# EAGLE library part DM385 (library texas1)
DM385_AAR edit this description Auto generated by make-symbol-device-package-bsdl.ulp Rev. 43 Source: DM385_AAR.bsdl
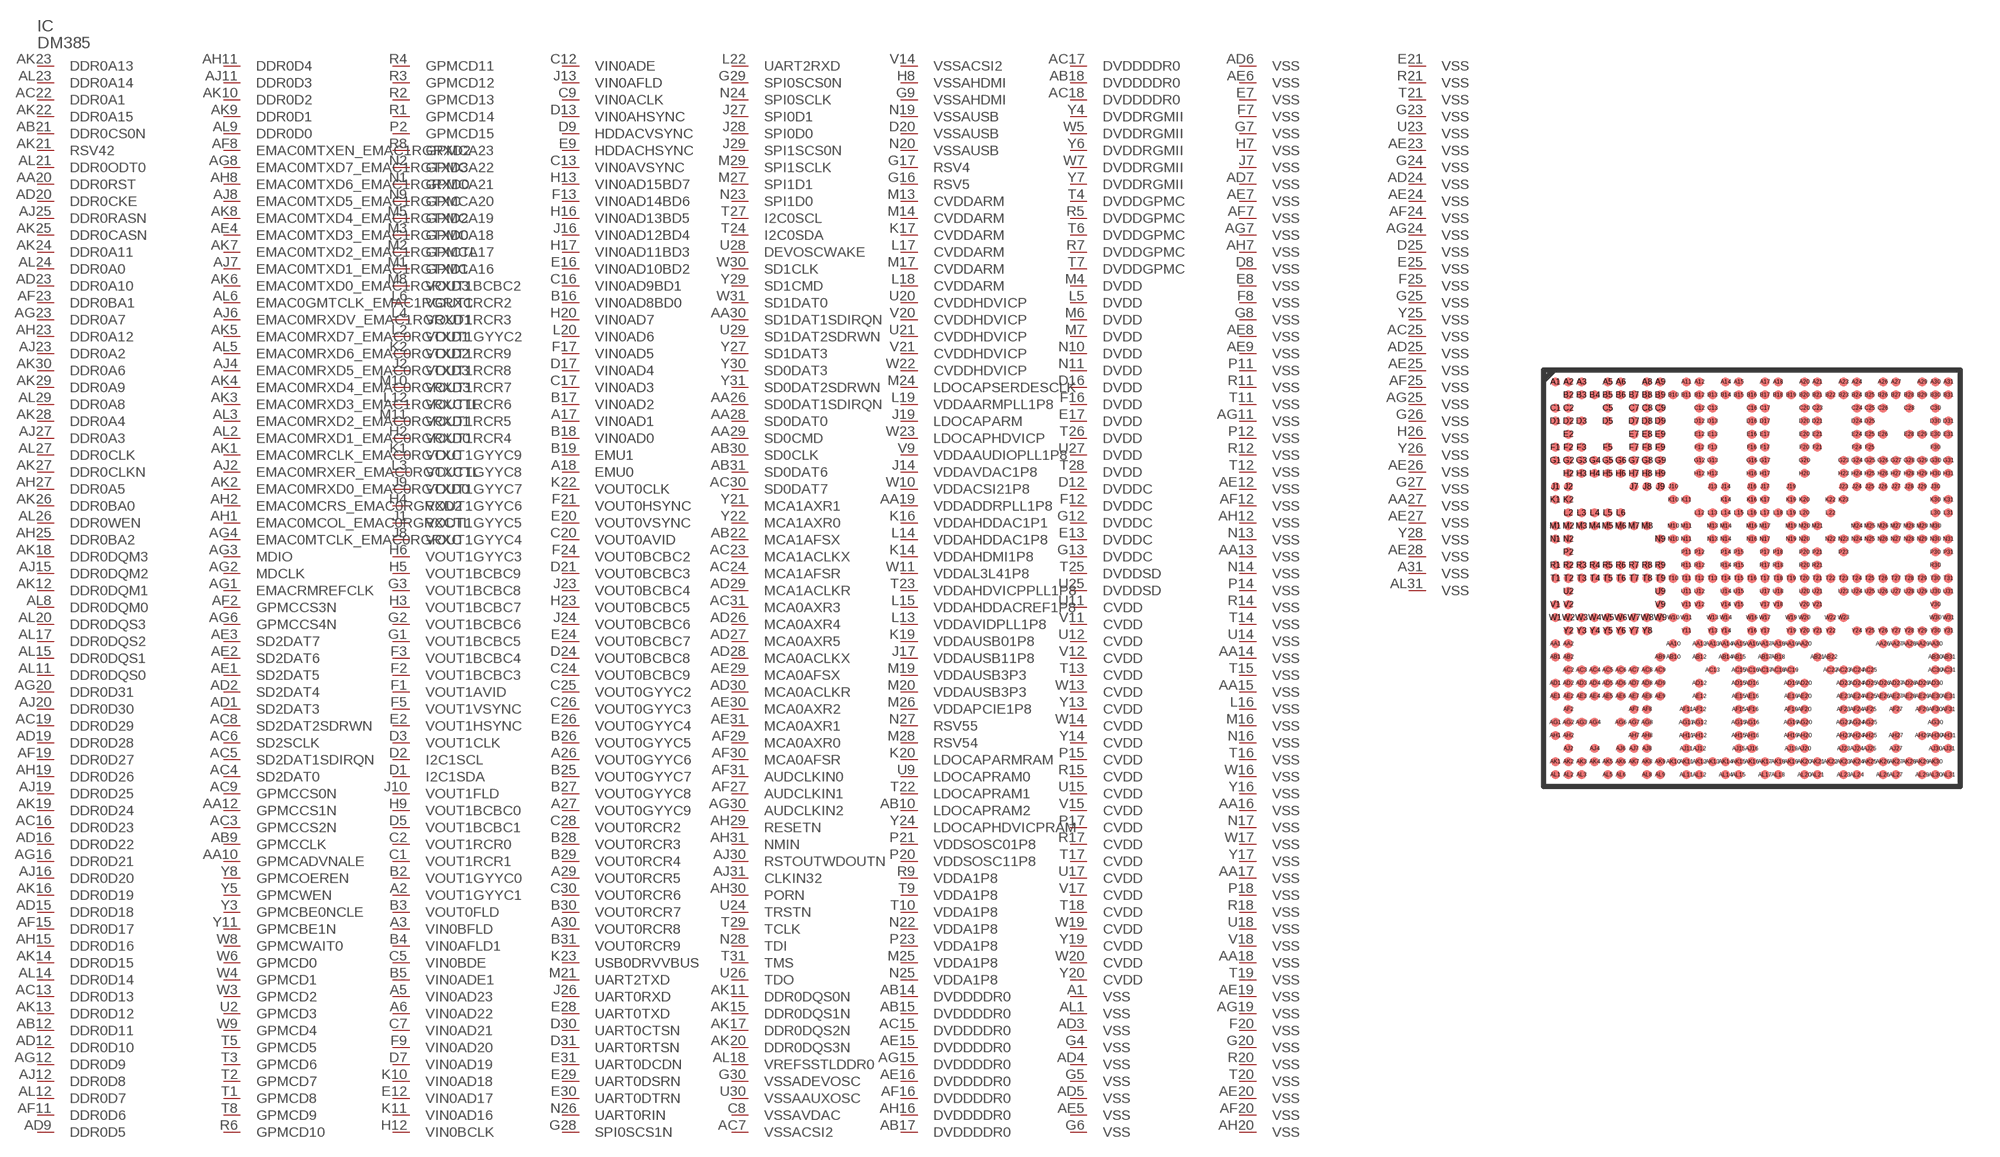
[diagram p121: symbol with the pads of AAR; footprint AAR]

Designator prefix IC

## DM385  [AAR]
A1  VSS  pwr
A2  VOUT1GYYC1
A3  VIN0BFLD
A5  VIN0AD23
A6  VIN0AD22
A17  VIN0AD1
A18  EMU0
A26  VOUT0GYYC6
A27  VOUT0GYYC9
A29  VOUT0RCR5
A30  VOUT0RCR8
A31  VSS  pwr
AA10  GPMCADVNALE
AA12  GPMCCS1N
AA13  VSS  pwr
AA14  VSS  pwr
AA15  VSS  pwr
AA16  VSS  pwr
AA17  VSS  pwr
AA18  VSS  pwr
AA19  VDDADDRPLL1P8  pwr
AA20  DDR0RST
AA26  SD0DAT1SDIRQN
AA27  VSS  pwr
AA28  SD0DAT0
AA29  SD0CMD
AA30  SD1DAT1SDIRQN
AB9  GPMCCLK
AB10  LDOCAPRAM2  pas
AB12  DDR0D11
AB14  DVDDDDR0  pwr
AB15  DVDDDDR0  pwr
AB17  DVDDDDR0  pwr
AB18  DVDDDDR0  pwr
AB21  DDR0CS0N
AB22  MCA1AFSX
AB30  SD0CLK
AB31  SD0DAT6
AC3  GPMCCS2N
AC4  SD2DAT0
AC5  SD2DAT1SDIRQN
AC6  SD2SCLK
AC7  VSSACSI2  pwr
AC8  SD2DAT2SDRWN
AC9  GPMCCS0N
AC13  DDR0D13
AC15  DVDDDDR0  pwr
AC16  DDR0D23
AC17  DVDDDDR0  pwr
AC18  DVDDDDR0  pwr
AC19  DDR0D29
AC22  DDR0A1
AC23  MCA1ACLKX
AC24  MCA1AFSR
AC25  VSS  pwr
AC30  SD0DAT7
AC31  MCA0AXR3
AD1  SD2DAT3
AD2  SD2DAT4
AD3  VSS  pwr
AD4  VSS  pwr
AD5  VSS  pwr
AD6  VSS  pwr
AD7  VSS  pwr
AD9  DDR0D5
AD12  DDR0D10
AD15  DDR0D18
AD16  DDR0D22
AD19  DDR0D28
AD20  DDR0CKE
AD23  DDR0A10
AD24  VSS  pwr
AD25  VSS  pwr
AD26  MCA0AXR4
AD27  MCA0AXR5
AD28  MCA0ACLKX
AD29  MCA1ACLKR
AD30  MCA0ACLKR
AE1  SD2DAT5
AE2  SD2DAT6
AE3  SD2DAT7
AE4  EMAC0MTXD3_EMAC1RGTXD0
AE5  VSS  pwr
AE6  VSS  pwr
AE7  VSS  pwr
AE8  VSS  pwr
AE9  VSS  pwr
AE12  VSS  pwr
AE15  DVDDDDR0  pwr
AE16  DVDDDDR0  pwr
AE19  VSS  pwr
AE20  VSS  pwr
AE23  VSS  pwr
AE24  VSS  pwr
AE25  VSS  pwr
AE26  VSS  pwr
AE27  VSS  pwr
AE28  VSS  pwr
AE29  MCA0AFSX
AE30  MCA0AXR2
AE31  MCA0AXR1
AF2  GPMCCS3N
AF7  VSS  pwr
AF8  EMAC0MTXEN_EMAC1RGRXD2
AF11  DDR0D6
AF12  VSS  pwr
AF15  DDR0D17
AF16  DVDDDDR0  pwr
AF19  DDR0D27
AF20  VSS  pwr
AF23  DDR0BA1
AF24  VSS  pwr
AF25  VSS  pwr
AF27  AUDCLKIN1
AF29  MCA0AXR0
AF30  MCA0AFSR
AF31  AUDCLKIN0
AG1  EMACRMREFCLK
AG2  MDCLK
AG3  MDIO
AG4  EMAC0MTCLK_EMAC0RGRXC
AG6  GPMCCS4N
AG7  VSS  pwr
AG8  EMAC0MTXD7_EMAC1RGTXD3
AG11  VSS  pwr
AG12  DDR0D9
AG15  DVDDDDR0  pwr
AG16  DDR0D21
AG19  VSS  pwr
AG20  DDR0D31
AG23  DDR0A7
AG24  VSS  pwr
AG25  VSS  pwr
AG30  AUDCLKIN2
AH1  EMAC0MCOL_EMAC0RGRXCTL
AH2  EMAC0MCRS_EMAC0RGRXD2
AH7  VSS  pwr
AH8  EMAC0MTXD6_EMAC1RGRXD0
AH11  DDR0D4
AH12  VSS  pwr
AH15  DDR0D16
AH16  DVDDDDR0  pwr
AH19  DDR0D26
AH20  VSS  pwr
AH23  DDR0A12
AH25  DDR0BA2
AH27  DDR0A5
AH29  RESETN
AH30  PORN  in
AH31  NMIN
AJ2  EMAC0MRXER_EMAC0RGTXCTL
AJ4  EMAC0MRXD5_EMAC0RGTXD3
AJ6  EMAC0MRXDV_EMAC1RGRXD1
AJ7  EMAC0MTXD1_EMAC1RGTXD1
AJ8  EMAC0MTXD5_EMAC1RGTXC
AJ11  DDR0D3
AJ12  DDR0D8
AJ15  DDR0DQM2
AJ16  DDR0D20
AJ19  DDR0D25
AJ20  DDR0D30
AJ23  DDR0A2
AJ25  DDR0RASN
AJ27  DDR0A3
AJ30  RSTOUTWDOUTN
AJ31  CLKIN32
AK1  EMAC0MRCLK_EMAC0RGTXC
AK2  EMAC0MRXD0_EMAC0RGTXD0
AK3  EMAC0MRXD3_EMAC1RGRXCTL
AK4  EMAC0MRXD4_EMAC0RGRXD3
AK5  EMAC0MRXD7_EMAC0RGTXD1
AK6  EMAC0MTXD0_EMAC1RGRXD3
AK7  EMAC0MTXD2_EMAC1RGTXCTL
AK8  EMAC0MTXD4_EMAC1RGTXD2
AK9  DDR0D1
AK10  DDR0D2
AK11  DDR0DQS0N
AK12  DDR0DQM1
AK13  DDR0D12
AK14  DDR0D15
AK15  DDR0DQS1N
AK16  DDR0D19
AK17  DDR0DQS2N
AK18  DDR0DQM3
AK19  DDR0D24
AK20  DDR0DQS3N
AK21  RSV42
AK22  DDR0A15
AK23  DDR0A13
AK24  DDR0A11
AK25  DDR0CASN
AK26  DDR0BA0
AK27  DDR0CLKN
AK28  DDR0A4
AK29  DDR0A9
AK30  DDR0A6
AL1  VSS  pwr
AL2  EMAC0MRXD1_EMAC0RGRXD0
AL3  EMAC0MRXD2_EMAC0RGRXD1
AL5  EMAC0MRXD6_EMAC0RGTXD2
AL6  EMAC0GMTCLK_EMAC1RGRXC
AL8  DDR0DQM0
AL9  DDR0D0
AL11  DDR0DQS0
AL12  DDR0D7
AL14  DDR0D14
AL15  DDR0DQS1
AL17  DDR0DQS2
AL18  VREFSSTLDDR0  pas
AL20  DDR0DQS3
AL21  DDR0ODT0
AL23  DDR0A14
AL24  DDR0A0
AL26  DDR0WEN
AL27  DDR0CLK
AL29  DDR0A8
AL31  VSS  pwr
B2  VOUT1GYYC0
B3  VOUT0FLD
B4  VIN0AFLD1
B5  VIN0ADE1
B16  VIN0AD8BD0
B17  VIN0AD2
B18  VIN0AD0
B19  EMU1
B25  VOUT0GYYC7
B26  VOUT0GYYC5
B27  VOUT0GYYC8
B28  VOUT0RCR3
B29  VOUT0RCR4
B30  VOUT0RCR7
B31  VOUT0RCR9
C1  VOUT1RCR1
C2  VOUT1RCR0
C5  VIN0BDE
C7  VIN0AD21
C8  VSSAVDAC  pwr
C9  VIN0ACLK
C12  VIN0ADE
C13  VIN0AVSYNC
C16  VIN0AD9BD1
C17  VIN0AD3
C20  VOUT0AVID
C24  VOUT0BCBC9
C25  VOUT0GYYC2
C26  VOUT0GYYC3
C28  VOUT0RCR2
C30  VOUT0RCR6
D1  I2C1SDA
D2  I2C1SCL
D3  VOUT1CLK
D5  VOUT1BCBC1
D7  VIN0AD19
D8  VSS  pwr
D9  HDDACVSYNC
D12  DVDDC  pwr
D13  VIN0AHSYNC
D16  DVDD  pwr
D17  VIN0AD4
D20  VSSAUSB  pwr
D21  VOUT0BCBC3
D24  VOUT0BCBC8
D25  VSS  pwr
D30  UART0CTSN
D31  UART0RTSN
E2  VOUT1HSYNC
E7  VSS  pwr
E8  VSS  pwr
E9  HDDACHSYNC
E12  VIN0AD17
E13  DVDDC  pwr
E16  VIN0AD10BD2
E17  DVDD  pwr
E20  VOUT0VSYNC
E21  VSS  pwr
E24  VOUT0BCBC7
E25  VSS  pwr
E26  VOUT0GYYC4
E28  UART0TXD
E29  UART0DSRN
E30  UART0DTRN
E31  UART0DCDN
F1  VOUT1AVID
F2  VOUT1BCBC3
F3  VOUT1BCBC4
F5  VOUT1VSYNC
F7  VSS  pwr
F8  VSS  pwr
F9  VIN0AD20
F12  DVDDC  pwr
F13  VIN0AD14BD6
F16  DVDD  pwr
F17  VIN0AD5
F20  VSS  pwr
F21  VOUT0HSYNC
F24  VOUT0BCBC2
F25  VSS  pwr
G1  VOUT1BCBC5
G2  VOUT1BCBC6
G3  VOUT1BCBC8
G4  VSS  pwr
G5  VSS  pwr
G6  VSS  pwr
G7  VSS  pwr
G8  VSS  pwr
G9  VSSAHDMI  pwr
G12  DVDDC  pwr
G13  DVDDC  pwr
G16  RSV5  pas
G17  RSV4  pas
G20  VSS  pwr
G23  VSS  pwr
G24  VSS  pwr
G25  VSS  pwr
G26  VSS  pwr
G27  VSS  pwr
G28  SPI0SCS1N
G29  SPI0SCS0N
G30  VSSADEVOSC  pwr
H2  VOUT1RCR4
H3  VOUT1BCBC7
H4  VOUT1GYYC6
H5  VOUT1BCBC9
H6  VOUT1GYYC3
H7  VSS  pwr
H8  VSSAHDMI  pwr
H9  VOUT1BCBC0
H12  VIN0BCLK
H13  VIN0AD15BD7
H16  VIN0AD13BD5
H17  VIN0AD11BD3
H20  VIN0AD7
H23  VOUT0BCBC5
H26  VSS  pwr
J1  VOUT1GYYC5
J2  VOUT1RCR8
J7  VSS  pwr
J8  VOUT1GYYC4
J9  VOUT1GYYC7
J10  VOUT1FLD
J13  VIN0AFLD
J14  VDDAVDAC1P8  pwr
J16  VIN0AD12BD4
J17  VDDAUSB11P8  pwr
J19  LDOCAPARM  pas
J23  VOUT0BCBC4
J24  VOUT0BCBC6
J26  UART0RXD
J27  SPI0D1
J28  SPI0D0
J29  SPI1SCS0N
K1  VOUT1GYYC9
K2  VOUT1RCR9
K10  VIN0AD18
K11  VIN0AD16
K14  VDDAHDMI1P8  pwr
K16  VDDAHDDAC1P1  pwr
K17  CVDDARM  pwr
K19  VDDAUSB01P8  pwr
K20  LDOCAPARMRAM  pas
K22  VOUT0CLK
K23  USB0DRVVBUS
L2  VOUT1GYYC2
L3  VOUT1GYYC8
L4  VOUT1RCR3
L5  DVDD  pwr
L6  VOUT1RCR2
L12  VOUT1RCR6
L13  VDDAVIDPLL1P8  pwr
L14  VDDAHDDAC1P8  pwr
L15  VDDAHDDACREF1P8  pwr
L16  VSS  pwr
L17  CVDDARM  pwr
L18  CVDDARM  pwr
L19  VDDAARMPLL1P8  pwr
L20  VIN0AD6
L22  UART2RXD
M1  GPMCA16
M2  GPMCA17
M3  GPMCA18
M4  DVDD  pwr
M5  GPMCA19
M6  DVDD  pwr
M7  DVDD  pwr
M8  VOUT1BCBC2
M10  VOUT1RCR7
M11  VOUT1RCR5
M13  CVDDARM  pwr
M14  CVDDARM  pwr
M16  VSS  pwr
M17  CVDDARM  pwr
M19  VDDAUSB3P3  pwr
M20  VDDAUSB3P3  pwr
M21  UART2TXD
M24  LDOCAPSERDESCLK  pas
M25  VDDA1P8  pwr
M26  VDDAPCIE1P8  pwr
M27  SPI1D1
M28  RSV54  pas
M29  SPI1SCLK
N1  GPMCA21
N2  GPMCA22
N9  GPMCA20
N10  DVDD  pwr
N11  DVDD  pwr
N13  VSS  pwr
N14  VSS  pwr
N16  VSS  pwr
N17  VSS  pwr
N19  VSSAUSB  pwr
N20  VSSAUSB  pwr
N22  VDDA1P8  pwr
N23  SPI1D0
N24  SPI0SCLK
N25  VDDA1P8  pwr
N26  UART0RIN
N27  RSV55  pas
N28  TDI  in
P2  GPMCD15
P11  VSS  pwr
P12  VSS  pwr
P14  VSS  pwr
P15  CVDD  pwr
P17  CVDD  pwr
P18  VSS  pwr
P20  VDDSOSC11P8  pwr
P21  VDDSOSC01P8  pwr
P23  VDDA1P8  pwr
R1  GPMCD14
R2  GPMCD13
R3  GPMCD12
R4  GPMCD11
R5  DVDDGPMC  pwr
R6  GPMCD10
R7  DVDDGPMC  pwr
R8  GPMCA23
R9  VDDA1P8  pwr
R11  VSS  pwr
R12  VSS  pwr
R14  VSS  pwr
R15  CVDD  pwr
R17  CVDD  pwr
R18  VSS  pwr
R20  VSS  pwr
R21  VSS  pwr
T1  GPMCD8
T2  GPMCD7
T3  GPMCD6
T4  DVDDGPMC  pwr
T5  GPMCD5
T6  DVDDGPMC  pwr
T7  DVDDGPMC  pwr
T8  GPMCD9
T9  VDDA1P8  pwr
T10  VDDA1P8  pwr
T11  VSS  pwr
T12  VSS  pwr
T13  CVDD  pwr
T14  VSS  pwr
T15  VSS  pwr
T16  VSS  pwr
T17  CVDD  pwr
T18  CVDD  pwr
T19  VSS  pwr
T20  VSS  pwr
T21  VSS  pwr
T22  LDOCAPRAM1  pas
T23  VDDAHDVICPPLL1P8  pwr
T24  I2C0SDA
T25  DVDDSD  pwr
T26  DVDD  pwr
T27  I2C0SCL
T28  DVDD  pwr
T29  TCLK  in
T31  TMS  in
U2  GPMCD3
U9  LDOCAPRAM0  pas
U11  CVDD  pwr
U12  CVDD  pwr
U14  VSS  pwr
U15  CVDD  pwr
U17  CVDD  pwr
U18  VSS  pwr
U20  CVDDHDVICP  pwr
U21  CVDDHDVICP  pwr
U23  VSS  pwr
U24  TRSTN  in
U25  DVDDSD  pwr
U26  TDO  out
U27  DVDD  pwr
U28  DEVOSCWAKE
U29  SD1DAT2SDRWN
U30  VSSAAUXOSC  pwr
V9  VDDAAUDIOPLL1P8  pwr
V11  CVDD  pwr
V12  CVDD  pwr
V14  VSSACSI2  pwr
V15  CVDD  pwr
V17  CVDD  pwr
V18  VSS  pwr
V20  CVDDHDVICP  pwr
V21  CVDDHDVICP  pwr
W3  GPMCD2
W4  GPMCD1
W5  DVDDRGMII  pwr
W6  GPMCD0
W7  DVDDRGMII  pwr
W8  GPMCWAIT0
W9  GPMCD4
W10  VDDACSI21P8  pwr
W11  VDDAL3L41P8  pwr
W13  CVDD  pwr
W14  CVDD  pwr
W16  VSS  pwr
W17  VSS  pwr
W19  CVDD  pwr
W20  CVDD  pwr
W22  CVDDHDVICP  pwr
W23  LDOCAPHDVICP  pas
W30  SD1CLK
W31  SD1DAT0
Y3  GPMCBE0NCLE
Y4  DVDDRGMII  pwr
Y5  GPMCWEN
Y6  DVDDRGMII  pwr
Y7  DVDDRGMII  pwr
Y8  GPMCOEREN
Y11  GPMCBE1N
Y13  CVDD  pwr
Y14  CVDD  pwr
Y16  VSS  pwr
Y17  VSS  pwr
Y19  CVDD  pwr
Y20  CVDD  pwr
Y21  MCA1AXR1
Y22  MCA1AXR0
Y24  LDOCAPHDVICPRAM  pas
Y25  VSS  pwr
Y26  VSS  pwr
Y27  SD1DAT3
Y28  VSS  pwr
Y29  SD1CMD
Y30  SD0DAT3
Y31  SD0DAT2SDRWN

## Footprint AAR (pad centres in mm)
DM385_AAR edit this description Auto generated by make-symbol-device-package-bsdl.ulp Rev. 43 Source: DM385_AAR.bsdl
smd 0.35 x 0.35: A1 -7.5,7.5; A2 -7,7.5; A3 -6.5,7.5; A5 -5.5,7.5; A6 -5,7.5; A8 -4,7.5; A9 -3.5,7.5; A11 -2.5,7.5; A12 -2,7.5; A14 -1,7.5; A15 -0.5,7.5; A17 0.5,7.5; A18 1,7.5; A20 2,7.5; A21 2.5,7.5; A23 3.5,7.5; A24 4,7.5; A26 5,7.5; A27 5.5,7.5; A29 6.5,7.5; A30 7,7.5; A31 7.5,7.5; AA1 -7.5,-2.5; AA2 -7,-2.5; AA10 -3,-2.5; AA12 -2,-2.5; AA13 -1.5,-2.5; AA14 -1,-2.5; AA15 -0.5,-2.5; AA16 0,-2.5; AA17 0.5,-2.5; AA18 1,-2.5; AA19 1.5,-2.5; AA20 2,-2.5; AA26 5,-2.5; AA27 5.5,-2.5; AA28 6,-2.5; AA29 6.5,-2.5; AA30 7,-2.5; AB1 -7.5,-3; AB2 -7,-3; AB9 -3.5,-3; AB10 -3,-3; AB12 -2,-3; AB14 -1,-3; AB15 -0.5,-3; AB17 0.5,-3; AB18 1,-3; AB21 2.5,-3; AB22 3,-3; AB30 7,-3; AB31 7.5,-3; AC2 -7,-3.5; AC3 -6.5,-3.5; AC4 -6,-3.5; AC5 -5.5,-3.5; AC6 -5,-3.5; AC7 -4.5,-3.5; AC8 -4,-3.5; AC9 -3.5,-3.5; AC13 -1.5,-3.5; AC15 -0.5,-3.5; AC16 0,-3.5; AC17 0.5,-3.5; AC18 1,-3.5; AC19 1.5,-3.5; AC22 3,-3.5; AC23 3.5,-3.5; AC24 4,-3.5; AC25 4.5,-3.5; AC30 7,-3.5; AC31 7.5,-3.5; AD1 -7.5,-4; AD2 -7,-4; AD3 -6.5,-4; AD4 -6,-4; AD5 -5.5,-4; AD6 -5,-4; AD7 -4.5,-4; AD8 -4,-4; AD9 -3.5,-4; AD12 -2,-4; AD15 -0.5,-4; AD16 0,-4; AD19 1.5,-4; AD20 2,-4; AD23 3.5,-4; AD24 4,-4; AD25 4.5,-4; AD26 5,-4; AD27 5.5,-4; AD28 6,-4; AD29 6.5,-4; AD30 7,-4; AE1 -7.5,-4.5; AE2 -7,-4.5; AE3 -6.5,-4.5; AE4 -6,-4.5; AE5 -5.5,-4.5; AE6 -5,-4.5; AE7 -4.5,-4.5; AE8 -4,-4.5; AE9 -3.5,-4.5; AE12 -2,-4.5; AE15 -0.5,-4.5; AE16 0,-4.5; AE19 1.5,-4.5; AE20 2,-4.5; AE23 3.5,-4.5; AE24 4,-4.5; AE25 4.5,-4.5; AE26 5,-4.5; AE27 5.5,-4.5; AE28 6,-4.5; AE29 6.5,-4.5; AE30 7,-4.5; AE31 7.5,-4.5; AF2 -7,-5; AF7 -4.5,-5; AF8 -4,-5; AF11 -2.5,-5; AF12 -2,-5; AF15 -0.5,-5; AF16 0,-5; AF19 1.5,-5; AF20 2,-5; AF23 3.5,-5; AF24 4,-5; AF25 4.5,-5; AF27 5.5,-5; AF29 6.5,-5; AF30 7,-5; AF31 7.5,-5; AG1 -7.5,-5.5; AG2 -7,-5.5; AG3 -6.5,-5.5; AG4 -6,-5.5; AG6 -5,-5.5; AG7 -4.5,-5.5; AG8 -4,-5.5; AG11 -2.5,-5.5; AG12 -2,-5.5; AG15 -0.5,-5.5; AG16 0,-5.5; AG19 1.5,-5.5; AG20 2,-5.5; AG23 3.5,-5.5; AG24 4,-5.5; AG25 4.5,-5.5; AG30 7,-5.5; AH1 -7.5,-6; AH2 -7,-6; AH7 -4.5,-6; AH8 -4,-6; AH11 -2.5,-6; AH12 -2,-6; AH15 -0.5,-6; AH16 0,-6; AH19 1.5,-6; AH20 2,-6; AH23 3.5,-6; AH24 4,-6; AH25 4.5,-6; AH27 5.5,-6; AH29 6.5,-6; AH30 7,-6; AH31 7.5,-6; AJ2 -7,-6.5; AJ4 -6,-6.5; AJ6 -5,-6.5; AJ7 -4.5,-6.5; AJ8 -4,-6.5; AJ11 -2.5,-6.5; AJ12 -2,-6.5; AJ15 -0.5,-6.5; AJ16 0,-6.5; AJ19 1.5,-6.5; AJ20 2,-6.5; AJ23 3.5,-6.5; AJ24 4,-6.5; AJ25 4.5,-6.5; AJ27 5.5,-6.5; AJ30 7,-6.5; AJ31 7.5,-6.5; AK1 -7.5,-7; AK2 -7,-7; AK3 -6.5,-7; AK4 -6,-7; AK5 -5.5,-7; AK6 -5,-7; AK7 -4.5,-7; AK8 -4,-7; AK9 -3.5,-7; AK10 -3,-7; AK11 -2.5,-7; AK12 -2,-7; AK13 -1.5,-7; AK14 -1,-7; AK15 -0.5,-7; AK16 0,-7; AK17 0.5,-7; AK18 1,-7; AK19 1.5,-7; AK20 2,-7; AK21 2.5,-7; AK22 3,-7; AK23 3.5,-7; AK24 4,-7; AK25 4.5,-7; AK26 5,-7; AK27 5.5,-7; AK28 6,-7; AK29 6.5,-7; AK30 7,-7; AL1 -7.5,-7.5; AL2 -7,-7.5; AL3 -6.5,-7.5; AL5 -5.5,-7.5; AL6 -5,-7.5; AL8 -4,-7.5; AL9 -3.5,-7.5; AL11 -2.5,-7.5; AL12 -2,-7.5; AL14 -1,-7.5; AL15 -0.5,-7.5; AL17 0.5,-7.5; AL18 1,-7.5; AL20 2,-7.5; AL21 2.5,-7.5; AL23 3.5,-7.5; AL24 4,-7.5; AL26 5,-7.5; AL27 5.5,-7.5; AL29 6.5,-7.5; AL30 7,-7.5; AL31 7.5,-7.5; B2 -7,7; B3 -6.5,7; B4 -6,7; B5 -5.5,7; B6 -5,7; B7 -4.5,7; B8 -4,7; B9 -3.5,7; B10 -3,7; B11 -2.5,7; B12 -2,7; B13 -1.5,7; B14 -1,7; B15 -0.5,7; B16 0,7; B17 0.5,7; B18 1,7; B19 1.5,7; B20 2,7; B21 2.5,7; B22 3,7; B23 3.5,7; B24 4,7; B25 4.5,7; B26 5,7; B27 5.5,7; B28 6,7; B29 6.5,7; B30 7,7; B31 7.5,7; C1 -7.5,6.5; C2 -7,6.5; C5 -5.5,6.5; C7 -4.5,6.5; C8 -4,6.5; C9 -3.5,6.5; C12 -2,6.5; C13 -1.5,6.5; C16 0,6.5; C17 0.5,6.5; C20 2,6.5; C23 2.5,6.5; C24 4,6.5; C25 4.5,6.5; C26 5,6.5; C28 6,6.5; C30 7,6.5; D1 -7.5,6; D2 -7,6; D3 -6.5,6; D5 -5.5,6; D7 -4.5,6; D8 -4,6; D9 -3.5,6; D12 -2,6; D13 -1.5,6; D16 0,6; D17 0.5,6; D20 2,6; D21 2.5,6; D24 4,6; D25 4.5,6; D30 7,6; D31 7.5,6; E2 -7,5.5; E7 -4.5,5.5; E8 -4,5.5; E9 -3.5,5.5; E12 -2,5.5; E13 -1.5,5.5; E16 0,5.5; E17 0.5,5.5; E20 2,5.5; E21 2.5,5.5; E24 4,5.5; E25 4.5,5.5; E26 5,5.5; E28 6,5.5; E29 6.5,5.5; E30 7,5.5; E31 7.5,5.5; F1 -7.5,5; F2 -7,5; F3 -6.5,5; F5 -5.5,5; F7 -4.5,5; F8 -4,5; F9 -3.5,5; F12 -2,5; F13 -1.5,5; F16 0,5; F17 0.5,5; F20 2,5; F21 2.5,5; F24 4,5; F25 4.5,5; F30 7,5; G1 -7.5,4.5; G2 -7,4.5; G3 -6.5,4.5; G4 -6,4.5; G5 -5.5,4.5; G6 -5,4.5; G7 -4.5,4.5; G8 -4,4.5; G9 -3.5,4.5; G12 -2,4.5; G13 -1.5,4.5; G16 0,4.5; G17 0.5,4.5; G20 2,4.5; G23 3.5,4.5; G24 4,4.5; G25 4.5,4.5; G26 5,4.5; G27 5.5,4.5; G28 6,4.5; G29 6.5,4.5; G30 7,4.5; G31 7.5,4.5; H2 -7,4; H3 -6.5,4; H4 -6,4; H5 -5.5,4; H6 -5,4; H7 -4.5,4; H8 -4,4; H9 -3.5,4; H12 -2,4; H13 -1.5,4; H16 0,4; H17 0.5,4; H20 2,4; H23 3.5,4; H24 4,4; H25 4.5,4; H26 5,4; H27 5.5,4; H28 6,4; H29 6.5,4; H30 7,4; H31 7.5,4; J1 -7.5,3.5; J2 -7,3.5; J7 -4.5,3.5; J8 -4,3.5; J9 -3.5,3.5; J10 -3,3.5; J13 -1.5,3.5; J14 -1,3.5; J16 0,3.5; J17 0.5,3.5; J19 1.5,3.5; J23 3.5,3.5; J24 4,3.5; J25 4.5,3.5; J26 5,3.5; J27 5.5,3.5; J28 6,3.5; J29 6.5,3.5; J30 7,3.5; K1 -7.5,3; K2 -7,3; K10 -3,3; K11 -2.5,3; K14 -1,3; K16 0,3; K17 0.5,3; K19 1.5,3; K20 2,3; K22 3,3; K23 3.5,3; K30 7,3; K31 7.5,3; L2 -7,2.5; L3 -6.5,2.5; L4 -6,2.5; L5 -5.5,2.5; L6 -5,2.5; L12 -2,2.5; L13 -1.5,2.5; L14 -1,2.5; L15 -0.5,2.5; L16 0,2.5; L17 0.5,2.5; L18 1,2.5; L19 1.5,2.5; L20 2,2.5; L22 3,2.5; L30 7,2.5; L31 7.5,2.5; M1 -7.5,2; M2 -7,2; M3 -6.5,2; M4 -6,2; M5 -5.5,2; M6 -5,2; M7 -4.5,2; M8 -4,2; M10 -3,2; M11 -2.5,2; M13 -1.5,2; M14 -1,2; M16 0,2; M17 0.5,2; M19 1.5,2; M20 2,2; M21 2.5,2; M24 4,2; M25 4.5,2; M26 5,2; M27 5.5,2; M28 6,2; M29 6.5,2; M30 7,2; N1 -7.5,1.5; N2 -7,1.5; N9 -3.5,1.5; N10 -3,1.5; N11 -2.5,1.5; N13 -1.5,1.5; N14 -1,1.5; N16 0,1.5; N17 0.5,1.5; N19 1.5,1.5; N20 2,1.5; N22 3,1.5; N23 3.5,1.5; N24 4,1.5; N25 4.5,1.5; N26 5,1.5; N27 5.5,1.5; N28 6,1.5; N29 6.5,1.5; N30 7,1.5; N31 7.5,1.5; P2 -7,1; P11 -2.5,1; P12 -2,1; P14 -1,1; P15 -0.5,1; P17 0.5,1; P18 1,1; P20 2,1; P21 2.5,1; P23 3.5,1; P30 7,1; P31 7.5,1; R1 -7.5,0.5; R2 -7,0.5; R3 -6.5,0.5; R4 -6,0.5; R5 -5.5,0.5; R6 -5,0.5; R7 -4.5,0.5; R8 -4,0.5; R9 -3.5,0.5; R11 -2.5,0.5; R12 -2,0.5; R14 -1,0.5; R15 -0.5,0.5; R17 0.5,0.5; R18 1,0.5; R20 2,0.5; R21 2.5,0.5; R30 7,0.5; T1 -7.5,0; T2 -7,0; T3 -6.5,0; T4 -6,0; T5 -5.5,0; T6 -5,0; T7 -4.5,0; T8 -4,0; T9 -3.5,0; T10 -3,0; T11 -2.5,0; T12 -2,0; T13 -1.5,0; T14 -1,0; T15 -0.5,0; T16 0,0; T17 0.5,0; T18 1,0; T19 1.5,0; T20 2,0; T21 2.5,0; T22 3,0; T23 3.5,0; T24 4,0; T25 4.5,0; T26 5,0; T27 5.5,0; T28 6,0; T29 6.5,0; T30 7,0; T31 7.5,0; U2 -7,-0.5; U9 -3.5,-0.5; U11 -2.5,-0.5; U12 -2,-0.5; U14 -1,-0.5; U15 -0.5,-0.5; U17 0.5,-0.5; U18 1,-0.5; U20 2,-0.5; U21 2.5,-0.5; U23 3.5,-0.5; U24 4,-0.5; U25 4.5,-0.5; U26 5,-0.5; U27 5.5,-0.5; U28 6,-0.5; U29 6.5,-0.5; U30 7,-0.5; U31 7.5,-0.5; V1 -7.5,-1; V2 -7,-1; V9 -3.5,-1; V11 -2.5,-1; V12 -2,-1; V14 -1,-1; V15 -0.5,-1; V17 0.5,-1; V18 1,-1; V20 2,-1; V21 2.5,-1; V30 7,-1; W1 -7.5,-1.5; W2 -7,-1.5; W3 -6.5,-1.5; W4 -6,-1.5; W5 -5.5,-1.5; W6 -5,-1.5; W7 -4.5,-1.5; W8 -4,-1.5; W9 -3.5,-1.5; W10 -3,-1.5; W11 -2.5,-1.5; W13 -1.5,-1.5; W14 -1,-1.5; W16 0,-1.5; W17 0.5,-1.5; W19 1.5,-1.5; W20 2,-1.5; W22 3,-1.5; W23 3.5,-1.5; W30 7,-1.5; W31 7.5,-1.5; Y2 -7,-2; Y3 -6.5,-2; Y4 -6,-2; Y5 -5.5,-2; Y6 -5,-2; Y7 -4.5,-2; Y8 -4,-2; Y11 -2.5,-2; Y13 -1.5,-2; Y14 -1,-2; Y16 0,-2; Y17 0.5,-2; Y19 1.5,-2; Y20 2,-2; Y21 2.5,-2; Y22 3,-2; Y24 4,-2; Y25 4.5,-2; Y26 5,-2; Y27 5.5,-2; Y28 6,-2; Y29 6.5,-2; Y30 7,-2; Y31 7.5,-2